# EAGLE library part S6B-PH-K-S(LF)(SN) (library S5B-PH-K-S(LF)(SN))
Designed by AKstudios github.com/akstudios
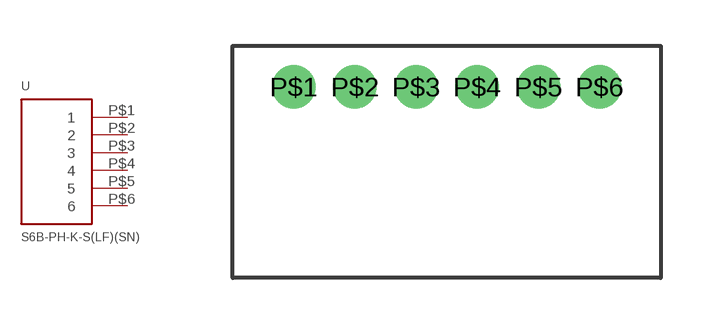
[diagram p0: symbol with the pads of CONNHEADERR/A6POS2MM; footprint CONNHEADERR/A6POS2MM]

Designator prefix -

## S6B-PH-K-S(LF)(SN)  [CONNHEADERR/A6POS2MM]
P$1  1
P$2  2
P$3  3
P$4  4
P$5  5
P$6  6

## Footprint CONNHEADERR/A6POS2MM (pad centres in mm)
drill 0.75 pad 1.422: P$1 2,6.25; P$2 4,6.25; P$3 6,6.25; P$4 8,6.25; P$5 10,6.25; P$6 12,6.25